# EAGLE library part MICORO_USB_5P (library Connector-etc)
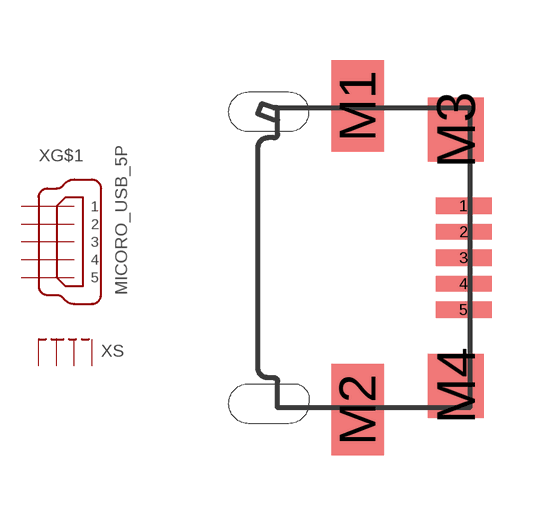
[diagram p0: symbol with the pads of 1981584-1; footprint 1981584-1]

Designator prefix X; gates G$1=MICRO-USB-5 S=SHIELD_4

## MICORO_USB_5P1981584-1  [1981584-1]
1  G$1:1  pas
2  G$1:2  pas
3  G$1:3  pas
4  G$1:4  pas
5  G$1:5  pas
M1  S:S1  pas
M2  S:S2  pas
M3  S:S3  pas
M4  S:S4  pas

## Footprint 1981584-1 (pad centres in mm)
smd 1.4 x 0.4: 1 2.65,1.3; 2 2.65,0.65; 3 2.65,0; 4 2.65,-0.65; 5 2.65,-1.3
smd 1.3 x 2.3: M1 0,3.8; M2 0,-3.8
smd 1.4 x 1.6: M3 2.45,3.2; M4 2.45,-3.2